# Altium schematic symbol library GENERIC_N_MOSFET_DUAL.SchLib: 1 symbol
Pins are listed as number, name and electrical type; pins without a type are passive.

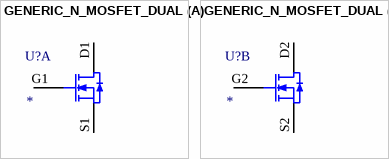
[diagram p0: symbol GENERIC_N_MOSFET_DUAL]

## GENERIC_N_MOSFET_DUAL
designator U?
part A pins: D1, G1, S1
part B pins: D2, G2, S2